# EAGLE library part ISP-SMD-6PIN (library awqua_eagle_library)
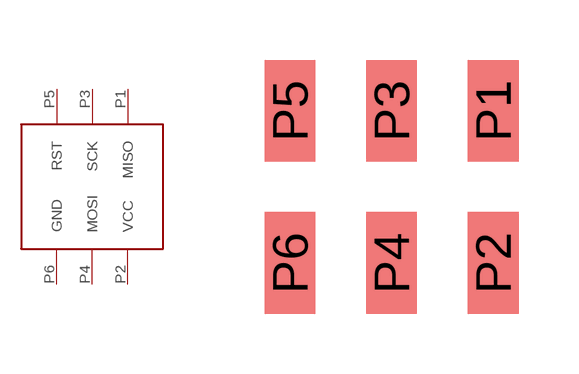
[diagram p16: symbol with the pads of ISP-SMD-6PIN; footprint ISP-SMD-6PIN]

Designator prefix -

## ISP-SMD-6PIN  [ISP-SMD-6PIN]
P1  MISO
P2  VCC
P3  SCK
P4  MOSI
P5  RST
P6  GND

## Footprint ISP-SMD-6PIN (pad centres in mm)
smd 1.27 x 2.54: P1 2.54,1.905; P2 2.54,-1.905; P3 0,1.905; P4 0,-1.905; P5 -2.54,1.905; P6 -2.54,-1.905